# Altium integrated library Analog Devices Data Converters Analog-to-Digital Converters.IntLib: 2404 symbols (part 155 of 346)
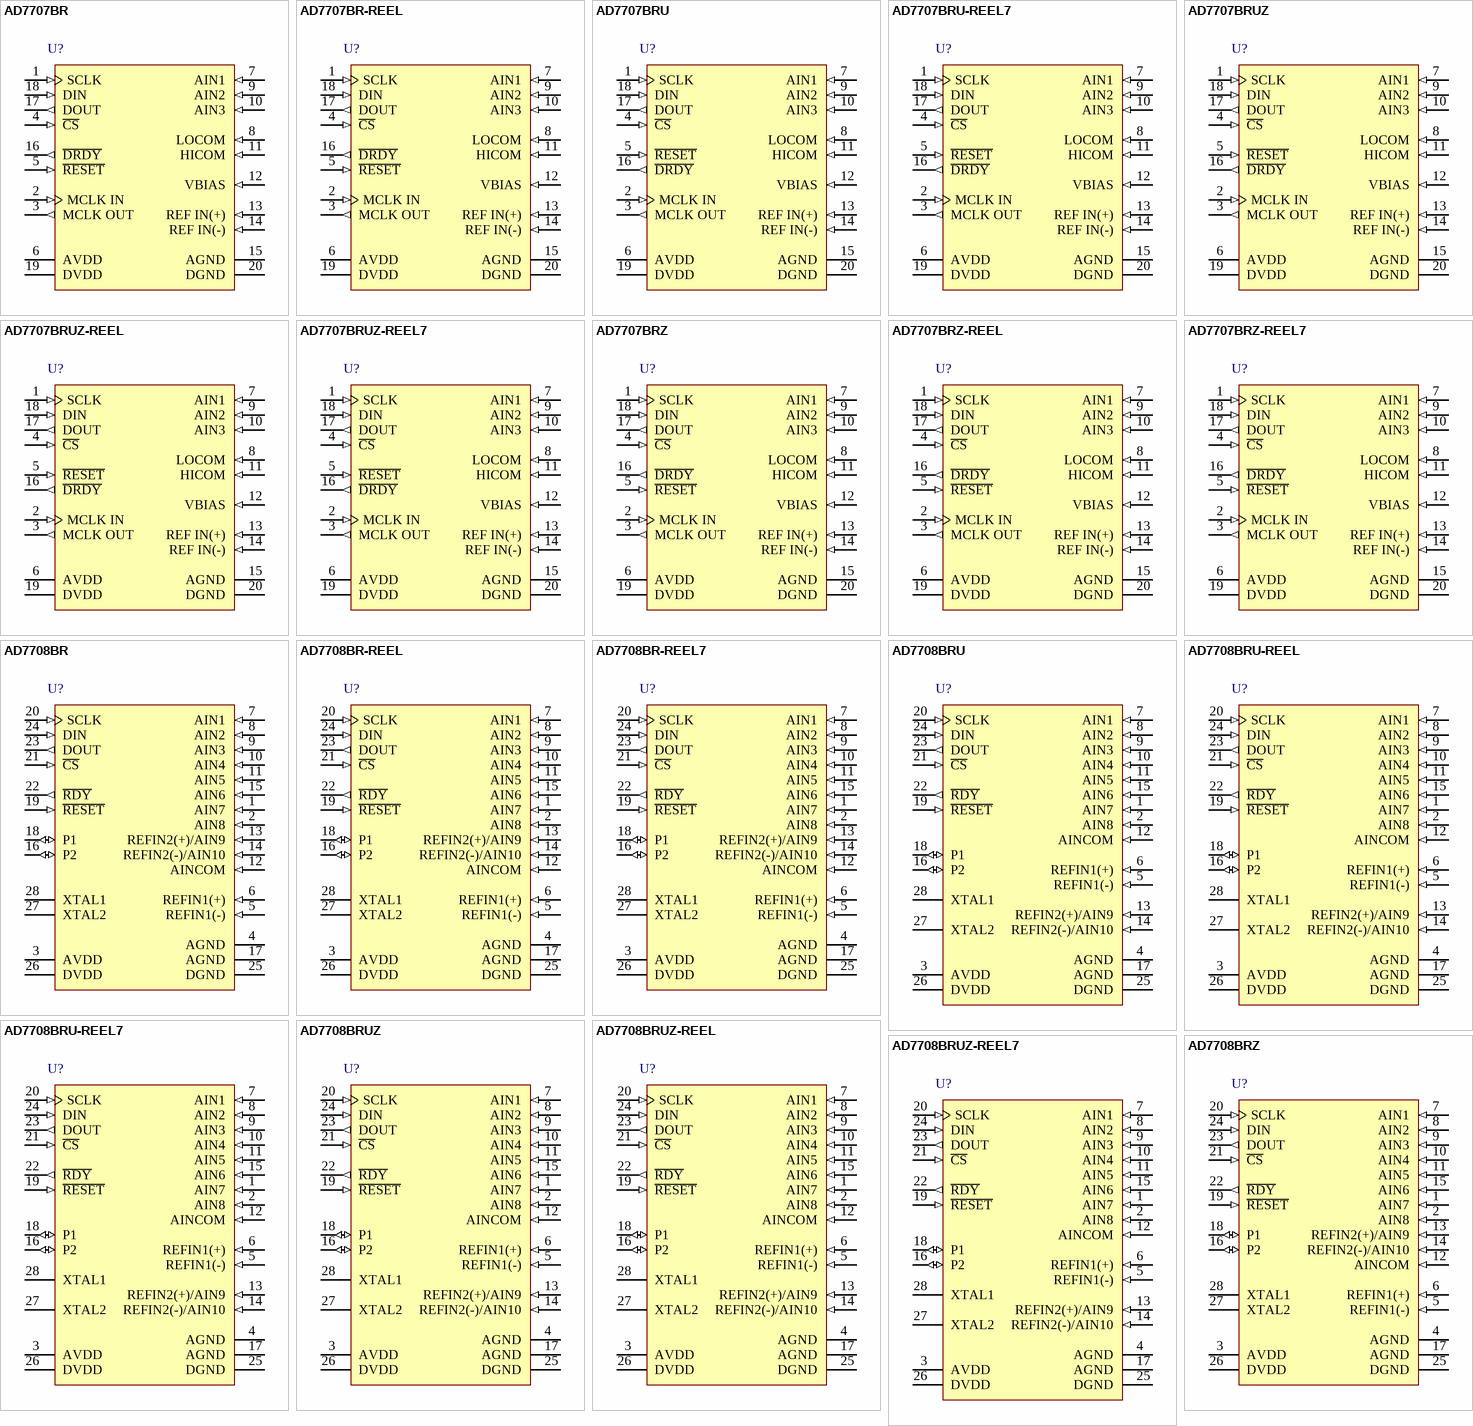
[diagram p240: symbols AD7707BR to AD7708BRZ]

## AD7708BR-REEL7
designator U?
10 Channel 16-Bit Low Power Sigma-Delta Analog-to-Digital Converter with Serial, SPI Interface, 1.365KSPS, -40 to +85 degC, RW-28, Reel; Generic Part Number: AD7708; Manufacturer: Analog Devices; PartNumber: AD7708BR-REEL7; Resolution (Bits): 16; Channels: 10; Throughput Rate (SPS): 1.365K; Interface: Ser, SPI; DatasheetVersion: Rev.0; PackageVersion: 060706-A; PackageReference: RW-28; PackageDescription: 28-Lead Standard Small Outline Package [SOIC_W]; Supplier 1: Digi-Key; Supplier Part Number 1: AD7708BR-REEL7-ND; Supplier 2: Mouser; Supplier Part Number 2: 584-AD7708BR-R7; RoHS: N; Packing: Reel; Mounting Technology: Surface Mount; Code_JEDEC: MS-013-AE; ComponentLink1Description: Manufacturer URL; ComponentLink1URL: http://www.analog.com/en/index.html; ComponentLink2Description: Datasheet; ComponentLink2URL: http://www.analog.com/static/imported-files/data_sheets/AD7708_7718.pdf; ComponentLink3Description: Package Specification; ComponentLink3URL: http://www.analog.com/static/imported-files/packages/35833120341221RW_28.pdf; ComponentLink4Description: Product URL; ComponentLink4URL: http://www.analog.com/en/analog-to-digital-converters/ad-converters/ad7708/products/product.html
footprint RW-28_N (SOIC, 28-Leads, Body 17.9x7.5mm, Pitch 1.27mm, IPC Medium Density)
footprint RW-28_L (SOIC, 28-Leads, Body 17.9x7.5mm, Pitch 1.27mm, IPC High Density)
footprint RW-28_M (SOIC, 28-Leads, Body 17.9x7.5mm, Pitch 1.27mm, IPC Low Density)
pins: 1 AIN7 (in) "Analog Input Channel 7. Programmable-gain analog input that can be used as a pseudo-differential input when used with AINCOM, or as the positive input of a fully-differential input pair when used with AIN8. (See ADC Control (See Datasheet)", 2 AIN8 (in) "Analog Input Channel 8. Programmable-gain analog input that can be used as a pseudo-differential input when used with AINCOM, or as the negative input of a fully-differential input pair when used with AIN7. (See ADC Control (See Datasheet)", 3 AVDD (power) "Analog Supply Voltage", 4 AGND (power) "Analog Ground", 5 REFIN1(-) (in) "Negative Reference Input. This reference input can lie anywhere between AGND and AVDD - 1 V.", 6 REFIN1(+) (in) "Positive reference input. REFIN(+) can lie anywhere between AVDD and AGND. The nominal reference voltage [REFIN(+)-REFIN(-)] is 2.5 V but the part is functional with a reference range from 1 V to AVDD.", 7 AIN1 (in) "Analog Input Channel 1. Programmable-gain analog input that can be used as a pseudo-differential input when used with AINCOM, or as the positive input of a fully-differential input pair when used with AIN2. (See ADC Control (See Datasheet)", 8 AIN2 (in) "Analog Input Channel 2. Programmable-gain analog input that can be used as a pseudo-differential input when used with AINCOM, or as the negative input of a fully-differential input pair when used with AIN1. (See ADC Control (See Datasheet)", 9 AIN3 (in) "Analog Input Channel 3. Programmable-gain analog input that can be used as a pseudo-differential input when used with AINCOM, or as the positive input of a fully-differential input pair when used with AIN4. (See ADC Control (See Datasheet)", 10 AIN4 (in) "Analog Input Channel 4. Programmable-gain analog input that can be used as a pseudo-differential input when used with AINCOM, or as the negative input of a fully-differential input pair when used with AIN3. (See ADC Control (See Datasheet)", 11 AIN5 (in) "Analog Input Channel 5. Programmable-gain analog input that can be used as a pseudo-differential input when used with AINCOM, or as the positive input of a fully-differential input pair when used with AIN6. (See ADC Control (See Datasheet)", 12 AINCOM (in) "All analog inputs are referenced to this input when configured in pseudo-differential input mode.", 13 REFIN2(+)/AIN9 (in) "Positive reference input/analog input. This input can be configured as a reference input with the same characteristics as REFIN1(+) or as an additional analog input. When configured as an analog input this pin provides a (See Datasheet)", 14 REFIN2(-)/AIN10 (in) "Negative reference input/analog input. This pin can be configured as a reference or analog input. When configured as a reference input it provides the negative reference input for REFIN2. When configured as an analog input (See Datasheet)", 15 AIN6 (in) "Analog Input Channel 6. Programmable-gain analog input that can be used as a pseudo-differential input when used with AINCOM, or as the negative input of a fully-differential input pair when used with AIN5. (See ADC Control (See Datasheet)", 16 P2 (io) "P2 can act as a general-purpose Input/Output bit referenced between AVDD and AGND. There is a weak pull-up to AVDD internally on this pin.", 17 AGND (power) "It is recommended that this pin be tied directly to AGND.", 18 P1 (io) "P1 can act as a general-purpose Input/Output bit referenced between AVDD and AGND. There is a weak pull-up to AVDD internally on this pin.", 19 ~{RESET} (in) "Digital input used to reset the ADC to its power-on-reset status. This pin has a weak pull-up internally to DVDD.", 20 SCLK (in) "Serial clock input for data transfers to and from the ADC. The SCLK has a Schmitt-trigger input making an opto-isolated interface more robust. The serial clock can be continuous with all data transmitted in a continuous (See Datasheet)", 21 ~{CS} (in) "Chip Select Input. This is an active low logic input used to select the AD7708/AD7718. C\S\ can be used to select the AD7708/AD7718 in systems with more than one device on the serial bus or as a frame synchronization signal (See Datasheet)", 22 ~{RDY} (out) "R\D\Y is a logic low status output from the AD7708/AD7718. R\D\Y is low when valid data exists in the data register for the selected channel. This output returns high on completion of a read operation from the data register. (See Datasheet)", 23 DOUT (out) "Serial data output with serial data being read from the output shift register of the ADC. The output shift register can contain data from any of the on-chip data, calibration or control registers.", 24 DIN (in) "Serial Data Input with serial data being written to the input shift register on the AD7708/AD7718 Data in this shift register is transferred to the calibration or control registers within the ADC depending on the selection (See Datasheet)", 25 DGND (power) "Ground Reference Point for the Digital Circuitry.", 26 DVDD (power) "Digital Supply Voltage, 3 V or 5 V Nominal.", 27 XTAL2 "Output from the 32 kHz Crystal Oscillator or Resonator Inverter.", 28 XTAL1 "Input to the 32 kHz Crystal Oscillator or Resonator Inverter."

## AD7708BRU
designator U?
10 Channel 16-Bit Low Power Sigma-Delta Analog-to-Digital Converter with Serial, SPI Interface, 1.365KSPS, -40 to +85 degC, RU-28, Tube; Generic Part Number: AD7708; Manufacturer: Analog Devices; PartNumber: AD7708BRU; Resolution (Bits): 16; Channels: 10; Throughput Rate (SPS): 1.365K; Interface: Ser, SPI; DatasheetVersion: Rev.0; PackageVersion: 2005; PackageReference: RU-28; PackageDescription: 28-Lead Thin Shrink Small Outline Package [TSSOP]; Supplier 1: Digi-Key; Supplier Part Number 1: AD7708BRU-ND; Supplier 2: Mouser; Supplier Part Number 2: 584-AD7708BRU; RoHS: N; Packing: Tube; Mounting Technology: Surface Mount; Code_JEDEC: MO-153-AE; ComponentLink1Description: Manufacturer URL; ComponentLink1URL: http://www.analog.com/en/index.html; ComponentLink2Description: Datasheet; ComponentLink2URL: http://www.analog.com/static/imported-files/data_sheets/AD7708_7718.pdf; ComponentLink3Description: Package Specification; ComponentLink3URL: http://www.analog.com/static/imported-files/packages/249854663RU_28.pdf; ComponentLink4Description: Product URL; ComponentLink4URL: http://www.analog.com/en/analog-to-digital-converters/ad-converters/ad7708/products/product.html
footprint RU-28_N (TSOP, 28-Leads, Body 9.7x4.4mm, Pitch 0.65mm, IPC Medium Density)
footprint RU-28_L (TSOP, 28-Leads, Body 9.7x4.4mm, Pitch 0.65mm, IPC High Density)
footprint RU-28_M (TSOP, 28-Leads, Body 9.7x4.4mm, Pitch 0.65mm, IPC Low Density)
pins: 1 AIN7 (in) "Analog Input Channel 7. Programmable-gain analog input that can be used as a pseudo-differential input when used with AINCOM, or as the positive input of a fully-differential input pair when used with AIN8. (See ADC Control (See Datasheet)", 2 AIN8 (in) "Analog Input Channel 8. Programmable-gain analog input that can be used as a pseudo-differential input when used with AINCOM, or as the negative input of a fully-differential input pair when used with AIN7. (See ADC Control (See Datasheet)", 3 AVDD (power) "Analog Supply Voltage", 4 AGND (power) "Analog Ground", 5 REFIN1(-) (in) "Negative Reference Input. This reference input can lie anywhere between AGND and AVDD -1 V.", 6 REFIN1(+) (in) "Positive reference input. REFIN(+) can lie anywhere between AVDD and AGND. The nominal reference voltage [REFIN(+)-REFIN(-)] is 2.5 V but the part is functional with a reference range from 1 V to AVDD.", 7 AIN1 (in) "Analog Input Channel 1. Programmable-gain analog input that can be used as a pseudo-differential input when used with AINCOM, or as the positive input of a fully-differential input pair when used with AIN2. (See ADC Control (See Datasheet)", 8 AIN2 (in) "Analog Input Channel 2. Programmable-gain analog input that can be used as a pseudo-differential input when used with AINCOM, or as the negative input of a fully-differential input pair when used with AIN1. (See ADC Control (See Datasheet)", 9 AIN3 (in) "Analog Input Channel 3. Programmable-gain analog input that can be used as a pseudo-differential input when used with AINCOM, or as the positive input of a fully-differential input pair when used with AIN4. (See ADC Control (See Datasheet)", 10 AIN4 (in) "Analog Input Channel 4. Programmable-gain analog input that can be used as a pseudo-differential input when used with AINCOM, or as the negative input of a fully-differential input pair when used with AIN3. (See ADC Control (See Datasheet)", 11 AIN5 (in) "Analog Input Channel 5. Programmable-gain analog input that can be used as a pseudo-differential input when used with AINCOM, or as the positive input of a fully-differential input pair when used with AIN6. (See ADC Control (See Datasheet)", 12 AINCOM (in) "All analog inputs are referenced to this input when configured in pseudo-differential input mode.", 13 REFIN2(+)/AIN9 (in) "Positive reference input/analog input. This input can be configured as a reference input with the same characteristics as REFIN1(+) or as an additional analog input. When configured as an analog input this pin provides a (See Datasheet)", 14 REFIN2(-)/AIN10 (in) "Negative reference input/analog input. This pin can be configured as a reference or analog input. When configured as a reference input it provides the negative reference input for REFIN2. When configured as an analog input (See Datasheet)", 15 AIN6 (in) "Analog Input Channel 6. Programmable-gain analog input that can be used as a pseudo-differential input when used with AINCOM, or as the negative input of a fully-differential input pair when used with AIN5. (See ADC Control (See Datasheet)", 16 P2 (io) "P2 can act as a general-purpose Input/Output bit referenced between AVDD and AGND. There is a weak pull-up to AVDD internally on this pin.", 17 AGND (power) "It is recommended that this pin be tied directly to AGND.", 18 P1 (io) "P1 can act as a general-purpose Input/Output bit referenced between AVDD and AGND. There is a weak pull-up to AVDD internally on this pin.", 19 ~{RESET} (in) "Digital input used to reset the ADC to its power-on-reset status. This pin has a weak pull-up internally to DVDD.", 20 SCLK (in) "Serial clock input for data transfers to and from the ADC. The SCLK has a Schmitt-trigger input making an opto-isolated interface more robust. The serial clock can be continuous with all data transmitted in a continuous (See Datasheet)", 21 ~{CS} (in) "Chip Select Input. This is an active low logic input used to select the AD7708/AD7718. C\S\ can be used to select the AD7708/AD7718 in systems with more than one device on the serial bus or as a frame synchronization signal (See Datasheet)", 22 ~{RDY} (out) "R\D\Y is a logic low status output from the AD7708/AD7718. R\D\Y is low when valid data exists in the data register for the selected channel. This output returns high on completion of a read operation from the data register. (See Datasheet)", 23 DOUT (out) "Serial data output with serial data being read from the output shift register of the ADC. The output shift register can contain data from any of the on-chip data, calibration or control registers.", 24 DIN (in) "Serial Data Input with serial data being written to the input shift register on the AD7708/AD7718 Data in this shift register is transferred to the calibration or control registers within the ADC depending on the selection (See Datasheet)", 25 DGND (power) "Ground Reference Point for the Digital Circuitry.", 26 DVDD (power) "Digital Supply Voltage, 3 V or 5 V Nominal.", 27 XTAL2 "Output from the 32 kHz Crystal Oscillator or Resonator Inverter.", 28 XTAL1 "Input to the 32 kHz Crystal Oscillator or Resonator Inverter."

## AD7708BRU-REEL
designator U?
10 Channel 16-Bit Low Power Sigma-Delta Analog-to-Digital Converter with Serial, SPI Interface, 1.365KSPS, -40 to +85 degC, RU-28, Reel; Generic Part Number: AD7708; Manufacturer: Analog Devices; PartNumber: AD7708BRU-REEL; Resolution (Bits): 16; Channels: 10; Throughput Rate (SPS): 1.365K; Interface: Ser, SPI; DatasheetVersion: Rev.0; PackageVersion: 2005; PackageReference: RU-28; PackageDescription: 28-Lead Thin Shrink Small Outline Package [TSSOP]; Supplier 1: Digi-Key; Supplier Part Number 1: AD7708BRU-REEL-ND; Supplier 2: Mouser; Supplier Part Number 2: 584-AD7708BRU-R; RoHS: N; Packing: Reel; Mounting Technology: Surface Mount; Code_JEDEC: MO-153-AE; ComponentLink1Description: Manufacturer URL; ComponentLink1URL: http://www.analog.com/en/index.html; ComponentLink2Description: Datasheet; ComponentLink2URL: http://www.analog.com/static/imported-files/data_sheets/AD7708_7718.pdf; ComponentLink3Description: Package Specification; ComponentLink3URL: http://www.analog.com/static/imported-files/packages/249854663RU_28.pdf; ComponentLink4Description: Product URL; ComponentLink4URL: http://www.analog.com/en/analog-to-digital-converters/ad-converters/ad7708/products/product.html
footprint RU-28_N (TSOP, 28-Leads, Body 9.7x4.4mm, Pitch 0.65mm, IPC Medium Density)
footprint RU-28_L (TSOP, 28-Leads, Body 9.7x4.4mm, Pitch 0.65mm, IPC High Density)
footprint RU-28_M (TSOP, 28-Leads, Body 9.7x4.4mm, Pitch 0.65mm, IPC Low Density)
pins: 1 AIN7 (in) "Analog Input Channel 7. Programmable-gain analog input that can be used as a pseudo-differential input when used with AINCOM, or as the positive input of a fully-differential input pair when used with AIN8. (See ADC Control (See Datasheet)", 2 AIN8 (in) "Analog Input Channel 8. Programmable-gain analog input that can be used as a pseudo-differential input when used with AINCOM, or as the negative input of a fully-differential input pair when used with AIN7. (See ADC Control (See Datasheet)", 3 AVDD (power) "Analog Supply Voltage", 4 AGND (power) "Analog Ground", 5 REFIN1(-) (in) "Negative Reference Input. This reference input can lie anywhere between AGND and AVDD -1 V.", 6 REFIN1(+) (in) "Positive reference input. REFIN(+) can lie anywhere between AVDD and AGND. The nominal reference voltage [REFIN(+)-REFIN(-)] is 2.5 V but the part is functional with a reference range from 1 V to AVDD.", 7 AIN1 (in) "Analog Input Channel 1. Programmable-gain analog input that can be used as a pseudo-differential input when used with AINCOM, or as the positive input of a fully-differential input pair when used with AIN2. (See ADC Control (See Datasheet)", 8 AIN2 (in) "Analog Input Channel 2. Programmable-gain analog input that can be used as a pseudo-differential input when used with AINCOM, or as the negative input of a fully-differential input pair when used with AIN1. (See ADC Control (See Datasheet)", 9 AIN3 (in) "Analog Input Channel 3. Programmable-gain analog input that can be used as a pseudo-differential input when used with AINCOM, or as the positive input of a fully-differential input pair when used with AIN4. (See ADC Control (See Datasheet)", 10 AIN4 (in) "Analog Input Channel 4. Programmable-gain analog input that can be used as a pseudo-differential input when used with AINCOM, or as the negative input of a fully-differential input pair when used with AIN3. (See ADC Control (See Datasheet)", 11 AIN5 (in) "Analog Input Channel 5. Programmable-gain analog input that can be used as a pseudo-differential input when used with AINCOM, or as the positive input of a fully-differential input pair when used with AIN6. (See ADC Control (See Datasheet)", 12 AINCOM (in) "All analog inputs are referenced to this input when configured in pseudo-differential input mode.", 13 REFIN2(+)/AIN9 (in) "Positive reference input/analog input. This input can be configured as a reference input with the same characteristics as REFIN1(+) or as an additional analog input. When configured as an analog input this pin provides a (See Datasheet)", 14 REFIN2(-)/AIN10 (in) "Negative reference input/analog input. This pin can be configured as a reference or analog input. When configured as a reference input it provides the negative reference input for REFIN2. When configured as an analog input (See Datasheet)", 15 AIN6 (in) "Analog Input Channel 6. Programmable-gain analog input that can be used as a pseudo-differential input when used with AINCOM, or as the negative input of a fully-differential input pair when used with AIN5. (See ADC Control (See Datasheet)", 16 P2 (io) "P2 can act as a general-purpose Input/Output bit referenced between AVDD and AGND. There is a weak pull-up to AVDD internally on this pin.", 17 AGND (power) "It is recommended that this pin be tied directly to AGND.", 18 P1 (io) "P1 can act as a general-purpose Input/Output bit referenced between AVDD and AGND. There is a weak pull-up to AVDD internally on this pin.", 19 ~{RESET} (in) "Digital input used to reset the ADC to its power-on-reset status. This pin has a weak pull-up internally to DVDD.", 20 SCLK (in) "Serial clock input for data transfers to and from the ADC. The SCLK has a Schmitt-trigger input making an opto-isolated interface more robust. The serial clock can be continuous with all data transmitted in a continuous (See Datasheet)", 21 ~{CS} (in) "Chip Select Input. This is an active low logic input used to select the AD7708/AD7718. C\S\ can be used to select the AD7708/AD7718 in systems with more than one device on the serial bus or as a frame synchronization signal (See Datasheet)", 22 ~{RDY} (out) "R\D\Y is a logic low status output from the AD7708/AD7718. R\D\Y is low when valid data exists in the data register for the selected channel. This output returns high on completion of a read operation from the data register. (See Datasheet)", 23 DOUT (out) "Serial data output with serial data being read from the output shift register of the ADC. The output shift register can contain data from any of the on-chip data, calibration or control registers.", 24 DIN (in) "Serial Data Input with serial data being written to the input shift register on the AD7708/AD7718 Data in this shift register is transferred to the calibration or control registers within the ADC depending on the selection (See Datasheet)", 25 DGND (power) "Ground Reference Point for the Digital Circuitry.", 26 DVDD (power) "Digital Supply Voltage, 3 V or 5 V Nominal.", 27 XTAL2 "Output from the 32 kHz Crystal Oscillator or Resonator Inverter.", 28 XTAL1 "Input to the 32 kHz Crystal Oscillator or Resonator Inverter."

## AD7708BRU-REEL7
designator U?
10 Channel 16-Bit Low Power Sigma-Delta Analog-to-Digital Converter with Serial, SPI Interface, 1.365KSPS, -40 to +85 degC, RU-28, Reel; Generic Part Number: AD7708; Manufacturer: Analog Devices; PartNumber: AD7708BRU-REEL7; Resolution (Bits): 16; Channels: 10; Throughput Rate (SPS): 1.365K; Interface: Ser, SPI; DatasheetVersion: Rev.0; PackageVersion: 2005; PackageReference: RU-28; PackageDescription: 28-Lead Thin Shrink Small Outline Package [TSSOP]; Supplier 1: Digi-Key; Supplier Part Number 1: AD7708BRU-REEL7-ND; Supplier 2: Mouser; Supplier Part Number 2: 584-AD7708BRU-R7; RoHS: N; Packing: Reel; Mounting Technology: Surface Mount; Code_JEDEC: MO-153-AE; ComponentLink1Description: Manufacturer URL; ComponentLink1URL: http://www.analog.com/en/index.html; ComponentLink2Description: Datasheet; ComponentLink2URL: http://www.analog.com/static/imported-files/data_sheets/AD7708_7718.pdf; ComponentLink3Description: Package Specification; ComponentLink3URL: http://www.analog.com/static/imported-files/packages/249854663RU_28.pdf; ComponentLink4Description: Product URL; ComponentLink4URL: http://www.analog.com/en/analog-to-digital-converters/ad-converters/ad7708/products/product.html
footprint RU-28_N (TSOP, 28-Leads, Body 9.7x4.4mm, Pitch 0.65mm, IPC Medium Density)
footprint RU-28_L (TSOP, 28-Leads, Body 9.7x4.4mm, Pitch 0.65mm, IPC High Density)
footprint RU-28_M (TSOP, 28-Leads, Body 9.7x4.4mm, Pitch 0.65mm, IPC Low Density)
pins: 1 AIN7 (in) "Analog Input Channel 7. Programmable-gain analog input that can be used as a pseudo-differential input when used with AINCOM, or as the positive input of a fully-differential input pair when used with AIN8. (See ADC Control (See Datasheet)", 2 AIN8 (in) "Analog Input Channel 8. Programmable-gain analog input that can be used as a pseudo-differential input when used with AINCOM, or as the negative input of a fully-differential input pair when used with AIN7. (See ADC Control (See Datasheet)", 3 AVDD (power) "Analog Supply Voltage", 4 AGND (power) "Analog Ground", 5 REFIN1(-) (in) "Negative Reference Input. This reference input can lie anywhere between AGND and AVDD -1 V.", 6 REFIN1(+) (in) "Positive reference input. REFIN(+) can lie anywhere between AVDD and AGND. The nominal reference voltage [REFIN(+)-REFIN(-)] is 2.5 V but the part is functional with a reference range from 1 V to AVDD.", 7 AIN1 (in) "Analog Input Channel 1. Programmable-gain analog input that can be used as a pseudo-differential input when used with AINCOM, or as the positive input of a fully-differential input pair when used with AIN2. (See ADC Control (See Datasheet)", 8 AIN2 (in) "Analog Input Channel 2. Programmable-gain analog input that can be used as a pseudo-differential input when used with AINCOM, or as the negative input of a fully-differential input pair when used with AIN1. (See ADC Control (See Datasheet)", 9 AIN3 (in) "Analog Input Channel 3. Programmable-gain analog input that can be used as a pseudo-differential input when used with AINCOM, or as the positive input of a fully-differential input pair when used with AIN4. (See ADC Control (See Datasheet)", 10 AIN4 (in) "Analog Input Channel 4. Programmable-gain analog input that can be used as a pseudo-differential input when used with AINCOM, or as the negative input of a fully-differential input pair when used with AIN3. (See ADC Control (See Datasheet)", 11 AIN5 (in) "Analog Input Channel 5. Programmable-gain analog input that can be used as a pseudo-differential input when used with AINCOM, or as the positive input of a fully-differential input pair when used with AIN6. (See ADC Control (See Datasheet)", 12 AINCOM (in) "All analog inputs are referenced to this input when configured in pseudo-differential input mode.", 13 REFIN2(+)/AIN9 (in) "Positive reference input/analog input. This input can be configured as a reference input with the same characteristics as REFIN1(+) or as an additional analog input. When configured as an analog input this pin provides a (See Datasheet)", 14 REFIN2(-)/AIN10 (in) "Negative reference input/analog input. This pin can be configured as a reference or analog input. When configured as a reference input it provides the negative reference input for REFIN2. When configured as an analog input (See Datasheet)", 15 AIN6 (in) "Analog Input Channel 6. Programmable-gain analog input that can be used as a pseudo-differential input when used with AINCOM, or as the negative input of a fully-differential input pair when used with AIN5. (See ADC Control (See Datasheet)", 16 P2 (io) "P2 can act as a general-purpose Input/Output bit referenced between AVDD and AGND. There is a weak pull-up to AVDD internally on this pin.", 17 AGND (power) "It is recommended that this pin be tied directly to AGND.", 18 P1 (io) "P1 can act as a general-purpose Input/Output bit referenced between AVDD and AGND. There is a weak pull-up to AVDD internally on this pin.", 19 ~{RESET} (in) "Digital input used to reset the ADC to its power-on-reset status. This pin has a weak pull-up internally to DVDD.", 20 SCLK (in) "Serial clock input for data transfers to and from the ADC. The SCLK has a Schmitt-trigger input making an opto-isolated interface more robust. The serial clock can be continuous with all data transmitted in a continuous (See Datasheet)", 21 ~{CS} (in) "Chip Select Input. This is an active low logic input used to select the AD7708/AD7718. C\S\ can be used to select the AD7708/AD7718 in systems with more than one device on the serial bus or as a frame synchronization signal (See Datasheet)", 22 ~{RDY} (out) "R\D\Y is a logic low status output from the AD7708/AD7718. R\D\Y is low when valid data exists in the data register for the selected channel. This output returns high on completion of a read operation from the data register. (See Datasheet)", 23 DOUT (out) "Serial data output with serial data being read from the output shift register of the ADC. The output shift register can contain data from any of the on-chip data, calibration or control registers.", 24 DIN (in) "Serial Data Input with serial data being written to the input shift register on the AD7708/AD7718 Data in this shift register is transferred to the calibration or control registers within the ADC depending on the selection (See Datasheet)", 25 DGND (power) "Ground Reference Point for the Digital Circuitry.", 26 DVDD (power) "Digital Supply Voltage, 3 V or 5 V Nominal.", 27 XTAL2 "Output from the 32 kHz Crystal Oscillator or Resonator Inverter.", 28 XTAL1 "Input to the 32 kHz Crystal Oscillator or Resonator Inverter."

## AD7708BRUZ
designator U?
10 Channel 16-Bit Low Power Sigma-Delta Analog-to-Digital Converter with Serial, SPI Interface, 1.365KSPS, -40 to +85 degC, RU-28, Pb-Free, Tube; Generic Part Number: AD7708; Manufacturer: Analog Devices; PartNumber: AD7708BRUZ; Resolution (Bits): 16; Channels: 10; Throughput Rate (SPS): 1.365K; Interface: Ser, SPI; DatasheetVersion: Rev.0; PackageVersion: 2005; PackageReference: RU-28; PackageDescription: 28-Lead Thin Shrink Small Outline Package [TSSOP]; Supplier 1: Digi-Key; Supplier Part Number 1: AD7708BRUZ-ND; Supplier 2: Newark; Supplier Part Number 2: 15P0842; Supplier 3: Newark; Supplier Part Number 3: 19M8847; Supplier 4: Mouser; Supplier Part Number 4: 584-AD7708BRUZ; RoHS: Y; Packing: Tube; Mounting Technology: Surface Mount; Code_JEDEC: MO-153-AE; ComponentLink1Description: Manufacturer URL; ComponentLink1URL: http://www.analog.com/en/index.html; ComponentLink2Description: Datasheet; ComponentLink2URL: http://www.analog.com/static/imported-files/data_sheets/AD7708_7718.pdf; ComponentLink3Description: Package Specification; ComponentLink3URL: http://www.analog.com/static/imported-files/packages/249854663RU_28.pdf; ComponentLink4Description: Product URL; ComponentLink4URL: http://www.analog.com/en/analog-to-digital-converters/ad-converters/ad7708/products/product.html
footprint RU-28_N (TSOP, 28-Leads, Body 9.7x4.4mm, Pitch 0.65mm, IPC Medium Density)
footprint RU-28_L (TSOP, 28-Leads, Body 9.7x4.4mm, Pitch 0.65mm, IPC High Density)
footprint RU-28_M (TSOP, 28-Leads, Body 9.7x4.4mm, Pitch 0.65mm, IPC Low Density)
pins: 1 AIN7 (in) "Analog Input Channel 7. Programmable-gain analog input that can be used as a pseudo-differential input when used with AINCOM, or as the positive input of a fully-differential input pair when used with AIN8. (See ADC Control (See Datasheet)", 2 AIN8 (in) "Analog Input Channel 8. Programmable-gain analog input that can be used as a pseudo-differential input when used with AINCOM, or as the negative input of a fully-differential input pair when used with AIN7. (See ADC Control (See Datasheet)", 3 AVDD (power) "Analog Supply Voltage", 4 AGND (power) "Analog Ground", 5 REFIN1(-) (in) "Negative Reference Input. This reference input can lie anywhere between AGND and AVDD -1 V.", 6 REFIN1(+) (in) "Positive reference input. REFIN(+) can lie anywhere between AVDD and AGND. The nominal reference voltage [REFIN(+)-REFIN(-)] is 2.5 V but the part is functional with a reference range from 1 V to AVDD.", 7 AIN1 (in) "Analog Input Channel 1. Programmable-gain analog input that can be used as a pseudo-differential input when used with AINCOM, or as the positive input of a fully-differential input pair when used with AIN2. (See ADC Control (See Datasheet)", 8 AIN2 (in) "Analog Input Channel 2. Programmable-gain analog input that can be used as a pseudo-differential input when used with AINCOM, or as the negative input of a fully-differential input pair when used with AIN1. (See ADC Control (See Datasheet)", 9 AIN3 (in) "Analog Input Channel 3. Programmable-gain analog input that can be used as a pseudo-differential input when used with AINCOM, or as the positive input of a fully-differential input pair when used with AIN4. (See ADC Control (See Datasheet)", 10 AIN4 (in) "Analog Input Channel 4. Programmable-gain analog input that can be used as a pseudo-differential input when used with AINCOM, or as the negative input of a fully-differential input pair when used with AIN3. (See ADC Control (See Datasheet)", 11 AIN5 (in) "Analog Input Channel 5. Programmable-gain analog input that can be used as a pseudo-differential input when used with AINCOM, or as the positive input of a fully-differential input pair when used with AIN6. (See ADC Control (See Datasheet)", 12 AINCOM (in) "All analog inputs are referenced to this input when configured in pseudo-differential input mode.", 13 REFIN2(+)/AIN9 (in) "Positive reference input/analog input. This input can be configured as a reference input with the same characteristics as REFIN1(+) or as an additional analog input. When configured as an analog input this pin provides a (See Datasheet)", 14 REFIN2(-)/AIN10 (in) "Negative reference input/analog input. This pin can be configured as a reference or analog input. When configured as a reference input it provides the negative reference input for REFIN2. When configured as an analog input (See Datasheet)", 15 AIN6 (in) "Analog Input Channel 6. Programmable-gain analog input that can be used as a pseudo-differential input when used with AINCOM, or as the negative input of a fully-differential input pair when used with AIN5. (See ADC Control (See Datasheet)", 16 P2 (io) "P2 can act as a general-purpose Input/Output bit referenced between AVDD and AGND. There is a weak pull-up to AVDD internally on this pin.", 17 AGND (power) "It is recommended that this pin be tied directly to AGND.", 18 P1 (io) "P1 can act as a general-purpose Input/Output bit referenced between AVDD and AGND. There is a weak pull-up to AVDD internally on this pin.", 19 ~{RESET} (in) "Digital input used to reset the ADC to its power-on-reset status. This pin has a weak pull-up internally to DVDD.", 20 SCLK (in) "Serial clock input for data transfers to and from the ADC. The SCLK has a Schmitt-trigger input making an opto-isolated interface more robust. The serial clock can be continuous with all data transmitted in a continuous (See Datasheet)", 21 ~{CS} (in) "Chip Select Input. This is an active low logic input used to select the AD7708/AD7718. C\S\ can be used to select the AD7708/AD7718 in systems with more than one device on the serial bus or as a frame synchronization signal (See Datasheet)", 22 ~{RDY} (out) "R\D\Y is a logic low status output from the AD7708/AD7718. R\D\Y is low when valid data exists in the data register for the selected channel. This output returns high on completion of a read operation from the data register. (See Datasheet)", 23 DOUT (out) "Serial data output with serial data being read from the output shift register of the ADC. The output shift register can contain data from any of the on-chip data, calibration or control registers.", 24 DIN (in) "Serial Data Input with serial data being written to the input shift register on the AD7708/AD7718 Data in this shift register is transferred to the calibration or control registers within the ADC depending on the selection (See Datasheet)", 25 DGND (power) "Ground Reference Point for the Digital Circuitry.", 26 DVDD (power) "Digital Supply Voltage, 3 V or 5 V Nominal.", 27 XTAL2 "Output from the 32 kHz Crystal Oscillator or Resonator Inverter.", 28 XTAL1 "Input to the 32 kHz Crystal Oscillator or Resonator Inverter."

## AD7708BRUZ-REEL
designator U?
10 Channel 16-Bit Low Power Sigma-Delta Analog-to-Digital Converter with Serial, SPI Interface, 1.365KSPS, -40 to +85 degC, RU-28, Pb-Free, Reel; Generic Part Number: AD7708; Manufacturer: Analog Devices; PartNumber: AD7708BRUZ-REEL; Resolution (Bits): 16; Channels: 10; Throughput Rate (SPS): 1.365K; Interface: Ser, SPI; DatasheetVersion: Rev.0; PackageVersion: 2005; PackageReference: RU-28; PackageDescription: 28-Lead Thin Shrink Small Outline Package [TSSOP]; Supplier 1: Digi-Key; Supplier Part Number 1: AD7708BRUZ-REEL-ND; Supplier 2: Mouser; Supplier Part Number 2: 584-AD7708BRUZ-R; RoHS: Y; Packing: Reel; Mounting Technology: Surface Mount; Code_JEDEC: MO-153-AE; ComponentLink1Description: Manufacturer URL; ComponentLink1URL: http://www.analog.com/en/index.html; ComponentLink2Description: Datasheet; ComponentLink2URL: http://www.analog.com/static/imported-files/data_sheets/AD7708_7718.pdf; ComponentLink3Description: Package Specification; ComponentLink3URL: http://www.analog.com/static/imported-files/packages/249854663RU_28.pdf; ComponentLink4Description: Product URL; ComponentLink4URL: http://www.analog.com/en/analog-to-digital-converters/ad-converters/ad7708/products/product.html
footprint RU-28_N (TSOP, 28-Leads, Body 9.7x4.4mm, Pitch 0.65mm, IPC Medium Density)
footprint RU-28_L (TSOP, 28-Leads, Body 9.7x4.4mm, Pitch 0.65mm, IPC High Density)
footprint RU-28_M (TSOP, 28-Leads, Body 9.7x4.4mm, Pitch 0.65mm, IPC Low Density)
pins: 1 AIN7 (in) "Analog Input Channel 7. Programmable-gain analog input that can be used as a pseudo-differential input when used with AINCOM, or as the positive input of a fully-differential input pair when used with AIN8. (See ADC Control (See Datasheet)", 2 AIN8 (in) "Analog Input Channel 8. Programmable-gain analog input that can be used as a pseudo-differential input when used with AINCOM, or as the negative input of a fully-differential input pair when used with AIN7. (See ADC Control (See Datasheet)", 3 AVDD (power) "Analog Supply Voltage", 4 AGND (power) "Analog Ground", 5 REFIN1(-) (in) "Negative Reference Input. This reference input can lie anywhere between AGND and AVDD -1 V.", 6 REFIN1(+) (in) "Positive reference input. REFIN(+) can lie anywhere between AVDD and AGND. The nominal reference voltage [REFIN(+)-REFIN(-)] is 2.5 V but the part is functional with a reference range from 1 V to AVDD.", 7 AIN1 (in) "Analog Input Channel 1. Programmable-gain analog input that can be used as a pseudo-differential input when used with AINCOM, or as the positive input of a fully-differential input pair when used with AIN2. (See ADC Control (See Datasheet)", 8 AIN2 (in) "Analog Input Channel 2. Programmable-gain analog input that can be used as a pseudo-differential input when used with AINCOM, or as the negative input of a fully-differential input pair when used with AIN1. (See ADC Control (See Datasheet)", 9 AIN3 (in) "Analog Input Channel 3. Programmable-gain analog input that can be used as a pseudo-differential input when used with AINCOM, or as the positive input of a fully-differential input pair when used with AIN4. (See ADC Control (See Datasheet)", 10 AIN4 (in) "Analog Input Channel 4. Programmable-gain analog input that can be used as a pseudo-differential input when used with AINCOM, or as the negative input of a fully-differential input pair when used with AIN3. (See ADC Control (See Datasheet)", 11 AIN5 (in) "Analog Input Channel 5. Programmable-gain analog input that can be used as a pseudo-differential input when used with AINCOM, or as the positive input of a fully-differential input pair when used with AIN6. (See ADC Control (See Datasheet)", 12 AINCOM (in) "All analog inputs are referenced to this input when configured in pseudo-differential input mode.", 13 REFIN2(+)/AIN9 (in) "Positive reference input/analog input. This input can be configured as a reference input with the same characteristics as REFIN1(+) or as an additional analog input. When configured as an analog input this pin provides a (See Datasheet)", 14 REFIN2(-)/AIN10 (in) "Negative reference input/analog input. This pin can be configured as a reference or analog input. When configured as a reference input it provides the negative reference input for REFIN2. When configured as an analog input (See Datasheet)", 15 AIN6 (in) "Analog Input Channel 6. Programmable-gain analog input that can be used as a pseudo-differential input when used with AINCOM, or as the negative input of a fully-differential input pair when used with AIN5. (See ADC Control (See Datasheet)", 16 P2 (io) "P2 can act as a general-purpose Input/Output bit referenced between AVDD and AGND. There is a weak pull-up to AVDD internally on this pin.", 17 AGND (power) "It is recommended that this pin be tied directly to AGND.", 18 P1 (io) "P1 can act as a general-purpose Input/Output bit referenced between AVDD and AGND. There is a weak pull-up to AVDD internally on this pin.", 19 ~{RESET} (in) "Digital input used to reset the ADC to its power-on-reset status. This pin has a weak pull-up internally to DVDD.", 20 SCLK (in) "Serial clock input for data transfers to and from the ADC. The SCLK has a Schmitt-trigger input making an opto-isolated interface more robust. The serial clock can be continuous with all data transmitted in a continuous (See Datasheet)", 21 ~{CS} (in) "Chip Select Input. This is an active low logic input used to select the AD7708/AD7718. C\S\ can be used to select the AD7708/AD7718 in systems with more than one device on the serial bus or as a frame synchronization signal (See Datasheet)", 22 ~{RDY} (out) "R\D\Y is a logic low status output from the AD7708/AD7718. R\D\Y is low when valid data exists in the data register for the selected channel. This output returns high on completion of a read operation from the data register. (See Datasheet)", 23 DOUT (out) "Serial data output with serial data being read from the output shift register of the ADC. The output shift register can contain data from any of the on-chip data, calibration or control registers.", 24 DIN (in) "Serial Data Input with serial data being written to the input shift register on the AD7708/AD7718 Data in this shift register is transferred to the calibration or control registers within the ADC depending on the selection (See Datasheet)", 25 DGND (power) "Ground Reference Point for the Digital Circuitry.", 26 DVDD (power) "Digital Supply Voltage, 3 V or 5 V Nominal.", 27 XTAL2 "Output from the 32 kHz Crystal Oscillator or Resonator Inverter.", 28 XTAL1 "Input to the 32 kHz Crystal Oscillator or Resonator Inverter."

## AD7708BRUZ-REEL7
designator U?
10 Channel 16-Bit Low Power Sigma-Delta Analog-to-Digital Converter with Serial, SPI Interface, 1.365KSPS, -40 to +85 degC, RU-28, Pb-Free, Reel; Generic Part Number: AD7708; Manufacturer: Analog Devices; PartNumber: AD7708BRUZ-REEL7; Resolution (Bits): 16; Channels: 10; Throughput Rate (SPS): 1.365K; Interface: Ser, SPI; DatasheetVersion: Rev.0; PackageVersion: 2005; PackageReference: RU-28; PackageDescription: 28-Lead Thin Shrink Small Outline Package [TSSOP]; Supplier 1: Digi-Key; Supplier Part Number 1: AD7708BRUZ-REEL7-ND; Supplier 2: Newark; Supplier Part Number 2: 59K5300; Supplier 3: Mouser; Supplier Part Number 3: 584-AD7708BRUZ-R7; RoHS: Y; Packing: Reel; Mounting Technology: Surface Mount; Code_JEDEC: MO-153-AE; ComponentLink1Description: Manufacturer URL; ComponentLink1URL: http://www.analog.com/en/index.html; ComponentLink2Description: Datasheet; ComponentLink2URL: http://www.analog.com/static/imported-files/data_sheets/AD7708_7718.pdf; ComponentLink3Description: Package Specification; ComponentLink3URL: http://www.analog.com/static/imported-files/packages/249854663RU_28.pdf; ComponentLink4Description: Product URL; ComponentLink4URL: http://www.analog.com/en/analog-to-digital-converters/ad-converters/ad7708/products/product.html
footprint RU-28_N (TSOP, 28-Leads, Body 9.7x4.4mm, Pitch 0.65mm, IPC Medium Density)
footprint RU-28_L (TSOP, 28-Leads, Body 9.7x4.4mm, Pitch 0.65mm, IPC High Density)
footprint RU-28_M (TSOP, 28-Leads, Body 9.7x4.4mm, Pitch 0.65mm, IPC Low Density)
pins: 1 AIN7 (in) "Analog Input Channel 7. Programmable-gain analog input that can be used as a pseudo-differential input when used with AINCOM, or as the positive input of a fully-differential input pair when used with AIN8. (See ADC Control (See Datasheet)", 2 AIN8 (in) "Analog Input Channel 8. Programmable-gain analog input that can be used as a pseudo-differential input when used with AINCOM, or as the negative input of a fully-differential input pair when used with AIN7. (See ADC Control (See Datasheet)", 3 AVDD (power) "Analog Supply Voltage", 4 AGND (power) "Analog Ground", 5 REFIN1(-) (in) "Negative Reference Input. This reference input can lie anywhere between AGND and AVDD -1 V.", 6 REFIN1(+) (in) "Positive reference input. REFIN(+) can lie anywhere between AVDD and AGND. The nominal reference voltage [REFIN(+)-REFIN(-)] is 2.5 V but the part is functional with a reference range from 1 V to AVDD.", 7 AIN1 (in) "Analog Input Channel 1. Programmable-gain analog input that can be used as a pseudo-differential input when used with AINCOM, or as the positive input of a fully-differential input pair when used with AIN2. (See ADC Control (See Datasheet)", 8 AIN2 (in) "Analog Input Channel 2. Programmable-gain analog input that can be used as a pseudo-differential input when used with AINCOM, or as the negative input of a fully-differential input pair when used with AIN1. (See ADC Control (See Datasheet)", 9 AIN3 (in) "Analog Input Channel 3. Programmable-gain analog input that can be used as a pseudo-differential input when used with AINCOM, or as the positive input of a fully-differential input pair when used with AIN4. (See ADC Control (See Datasheet)", 10 AIN4 (in) "Analog Input Channel 4. Programmable-gain analog input that can be used as a pseudo-differential input when used with AINCOM, or as the negative input of a fully-differential input pair when used with AIN3. (See ADC Control (See Datasheet)", 11 AIN5 (in) "Analog Input Channel 5. Programmable-gain analog input that can be used as a pseudo-differential input when used with AINCOM, or as the positive input of a fully-differential input pair when used with AIN6. (See ADC Control (See Datasheet)", 12 AINCOM (in) "All analog inputs are referenced to this input when configured in pseudo-differential input mode.", 13 REFIN2(+)/AIN9 (in) "Positive reference input/analog input. This input can be configured as a reference input with the same characteristics as REFIN1(+) or as an additional analog input. When configured as an analog input this pin provides a (See Datasheet)", 14 REFIN2(-)/AIN10 (in) "Negative reference input/analog input. This pin can be configured as a reference or analog input. When configured as a reference input it provides the negative reference input for REFIN2. When configured as an analog input (See Datasheet)", 15 AIN6 (in) "Analog Input Channel 6. Programmable-gain analog input that can be used as a pseudo-differential input when used with AINCOM, or as the negative input of a fully-differential input pair when used with AIN5. (See ADC Control (See Datasheet)", 16 P2 (io) "P2 can act as a general-purpose Input/Output bit referenced between AVDD and AGND. There is a weak pull-up to AVDD internally on this pin.", 17 AGND (power) "It is recommended that this pin be tied directly to AGND.", 18 P1 (io) "P1 can act as a general-purpose Input/Output bit referenced between AVDD and AGND. There is a weak pull-up to AVDD internally on this pin.", 19 ~{RESET} (in) "Digital input used to reset the ADC to its power-on-reset status. This pin has a weak pull-up internally to DVDD.", 20 SCLK (in) "Serial clock input for data transfers to and from the ADC. The SCLK has a Schmitt-trigger input making an opto-isolated interface more robust. The serial clock can be continuous with all data transmitted in a continuous (See Datasheet)", 21 ~{CS} (in) "Chip Select Input. This is an active low logic input used to select the AD7708/AD7718. C\S\ can be used to select the AD7708/AD7718 in systems with more than one device on the serial bus or as a frame synchronization signal (See Datasheet)", 22 ~{RDY} (out) "R\D\Y is a logic low status output from the AD7708/AD7718. R\D\Y is low when valid data exists in the data register for the selected channel. This output returns high on completion of a read operation from the data register. (See Datasheet)", 23 DOUT (out) "Serial data output with serial data being read from the output shift register of the ADC. The output shift register can contain data from any of the on-chip data, calibration or control registers.", 24 DIN (in) "Serial Data Input with serial data being written to the input shift register on the AD7708/AD7718 Data in this shift register is transferred to the calibration or control registers within the ADC depending on the selection (See Datasheet)", 25 DGND (power) "Ground Reference Point for the Digital Circuitry.", 26 DVDD (power) "Digital Supply Voltage, 3 V or 5 V Nominal.", 27 XTAL2 "Output from the 32 kHz Crystal Oscillator or Resonator Inverter.", 28 XTAL1 "Input to the 32 kHz Crystal Oscillator or Resonator Inverter."